# Altium schematic symbol library PCB_Project1.SCHLIB: 19 symbols
Pins are listed as number, name and electrical type; pins without a type are passive.

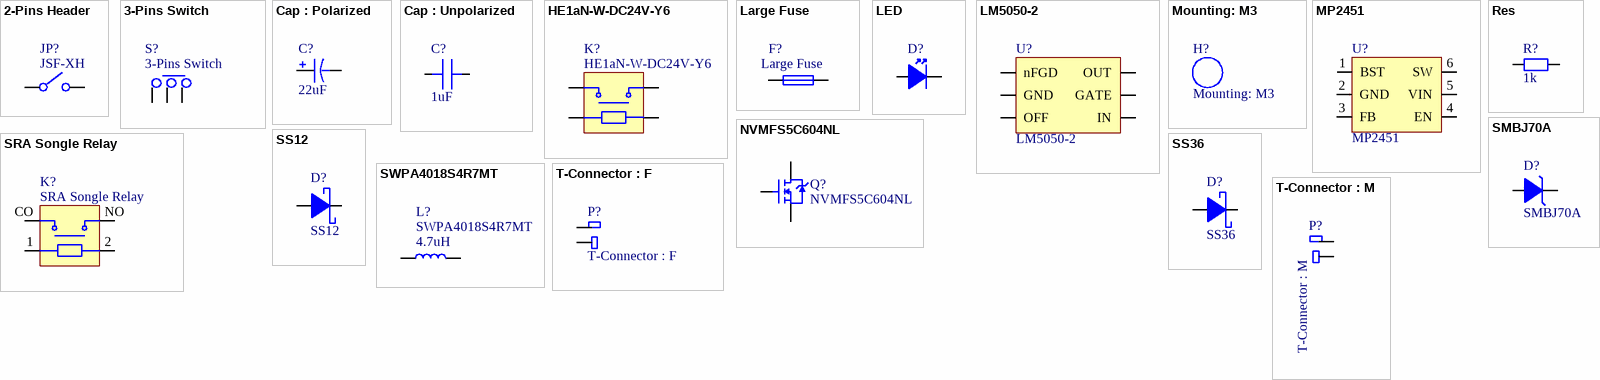
[diagram p0: symbols 2-Pins Header to T-Connector : M]

## 2-Pins Header
designator JP?  Name: JSF-XH  (hidden comment: 2-Pins Header)
footprint 2-Pins Header (2-Pins Header with plastic surrounded)
pins: 1, 2

## 3-Pins Switch
designator S?
SS12d00G3; ComponentLink1Description: SS12d00G3; ComponentLink1URL: https://item.taobao.com/item.htm?spm=a1z09.2.0.0.42022e8dz0ovVy&id=522571770484&_u=133pjrv7231a; Name: 3-Pins Switch
footprint 3-Pins Switch (SS12d00G3)
pins: 1, 2, 3

## Cap : Polarized
designator C?  value 22uF  (hidden comment: Cap : Polarized)
Polarized Capacitor
simulation model CAP (Capacitor)
signal-integrity model Cap
footprint CAP AL C 5.3MM (Al Electrolytic Cap ; 5.30x5.30x5.80mm ; IPC Low Density)
footprint CAP AL D 6.6MM (Al Electrolytic Cap ; 6.60x6.60x7.70mm ; IPC Low Density)
footprint CAP AL F 8.3MM (Al Electrolytic Cap ; 8.30x8.30x10.50mm ; IPC Low Density)
footprint CAP AL G 10.3MM (Al Electrolytic Cap ; 10.30x10.30x10.50mm ; IPC Low Density)
pins: A, K

## Cap : Unpolarized
designator C?  value 1uF  (hidden comment: Cap : Unpolarized)
Unpolarized Capacitor
simulation model CAP (Capacitor)
signal-integrity model Cap
footprint CAP 0402/1005 (Cap ; 1.0x0.5mm ; EIA 0402 ; IPC Medium Density)
footprint CAP 0603/1608 (Cap ; 1.6x0.8mm ; EIA 0603 ; IPC Medium Density)
footprint CAP 0805/2012 (Cap ; 2.0x1.2mm ; EIA 0805 ; IPC Medium Density)
footprint CAP 1206/3216 (Cap ; 3.2x1.6mm ; EIA 1206 ; IPC Medium Density)
footprint CAP 1210/3225 (Cap ; 3.20x2.50mm ; EIA 1210 ; IPC Medium Density)
pins: 1, 2

## HE1aN-W-DC24V-Y6
designator K?
90A Relay; ComponentLink1Description: HE1aN-W-DC24V-Y6; ComponentLink1URL: https://www.mouser.com/ds/2/315/mech_eng_hepv-1075638.pdf
footprint HE1aN-W-DC24V-Y6 (Electro-mechanical relay)
pins: Coil1, Coil2, Relay1, Relay2

## Large Fuse
designator F?
Large size fuse
footprint Fuse (NOT FINIALIZED)
pins: 1, 2

## LED
designator D?  (value not drawn)
Name: *
simulation model LED0 (Diode)
footprint LED 0805/2012 (LED ; EIA 0805)
pins: A, K

## LM5050-2
designator U?
High-Side OR-ing FET Controller; ComponentLink1Description: LM5050-2; ComponentLink1URL: http://www.ti.com/lit/ds/symlink/lm5050-2.pdf; Name: LM5050-2
footprint SOT23-6
pins: 1 nFGD, 2 GND, 3 OFF, 4 IN, 5 GATE, 6 OUT

## Mounting: M3
designator H?
Mounting Hole: M3
footprint Mounting hole M3 (M2 standard mounting hole ; For M3 pillar)

## MP2451
designator U?
Step-Down Converter ; 36V ; 2MHz ; 0.6A; ComponentLink1Description: MP2451; ComponentLink1URL: https://www.mouser.com/ds/2/277/MP2451_r1.33-477967.pdf; Name: MP2451
footprint SOT23-6
pins: 1 BST, 2 GND, 3 FB, 4 EN, 5 VIN, 6 SW

## NVMFS5C604NL
designator Q?
Power MOSFET ; 60 V ; 1.2 mR ; 287A ; Single N−Channel; ComponentLink1Description: NVMFS5C604NL; ComponentLink1URL: http://www.onsemi.cn/PowerSolutions/document/NVMFS5C604NL-D.PDF; Name: NVMFS5C604NL
footprint NVMFS5C604NL (Power MOSFET ; 60 V ; 1.2 mR ; 287A ; Single N-Channel)
pins: D, G, S

## Res
designator R?  value 1k  (hidden comment: Res)
Resistor
simulation model RESISTOR (Resistor)
signal-integrity model Res
footprint RES 0402/1005 (Res ; 1.0x0.5mm ; IPC Medium Density)
footprint RES 0603/1608 (Res ; 1.6x0.8mm ; EIA 0603 ; IPC Medium Density)
footprint RES 0805/2012 (Res ; 2.00x1.25mm ; IPC Medium Density)
footprint RES 1206/3216 (Res ; 3.2x1.6mm ; IPC High Density)
footprint RES 1210/3225 (RES ; 3.20x2.50mm ; EIA 1210 ; IPC Medium Density)
footprint RES 2010/5025 (RES ; 5.20x2.60mm ; EIA 2010 ; IPC Medium Density)
footprint RES 2512/6332 (RES ; 6.30x3.20mm ; EIA 2512 ; IPC Medium Density)
pins: 1, 2 1

## SMBJ70A
designator D?
Transient Voltage Suppression Diodes; ComponentLink1Description: SMBJ70A; ComponentLink1URL: http://www.littelfuse.com/~/media/electronics/datasheets/tvs_diodes/littelfuse_tvs_diode_smbj_datasheet.pdf.pdf; ComponentLink2Description: SMBJ70A_TaoBao; ComponentLink2URL: https://item.taobao.com/item.htm?spm=a230r.1.14.18.167673edhP2qwe&id=564794336232&ns=1&abbucket=13#detail; Name: SMBJ70A
footprint SMB (DO-214AA)
pins: A, K

## SRA Songle Relay
designator K?
20A Relay; ComponentLink1Description: SRA Songle Relay; ComponentLink1URL: https://www.rlocman.ru/i/File/2018/02/21/SRA--T74-.pdf
footprint SRA Songle Relay (Songle Relay ; SRA ; 5 pins ; 20A)
pins: 1 Coil1, 2 Coil2, CO Relay1, NO Relay2

## SS12
designator D?
Surface Mount Schottky Barrier Rectifier; ComponentLink1Description: SS12; ComponentLink1URL: https://www.vishay.com/docs/88746/ss12.pdf; ComponentLink2Description: SS12_TaoBao; ComponentLink2URL: https://item.taobao.com/item.htm?spm=a1z10.3-c-s.w4002-16569462289.23.52e96a4bPeluV8&id=545464510804; Name: SS12
footprint SMA (DO-214AC)
pins: A, K

## SS36
designator D?
Surface Mount Schottky Barrier Rectifier; ComponentLink1Description: SS36; ComponentLink1URL: https://www.vishay.com/docs/88751/ss32.pdf; ComponentLink2Description: SS36_TaoBao; ComponentLink2URL: https://item.taobao.com/item.htm?spm=a1z0d.7625083.1998302264.6.686c4e69YVpoGp&id=545485003984; Name: SS36
footprint SMA (DO-214AC)
pins: A, K

## SWPA4018S4R7MT
designator L?  value 4.7uH
Wire Wound SMD Power Inductor ; 4.7uH ; 1.7A; ComponentLink1Description: SWPA4018S4R7MT; ComponentLink1URL: https://www.datasheets360.com/pdf/-5671755628400742870
simulation model INDUCTOR (Inductor)
signal-integrity model Inductor
footprint SWPA4018S4R7MT (Wire Wound SMD Power Inductor ; 4.7uH ; 1.7A)
pins: 1, 2

## T-Connector : F
designator P?
T-shape connector ; Female side; Name: T-Connector : F
footprint T CONNECTOR F (T-shape connector ; Female side)
pins: N -, P +

## T-Connector : M
designator P?
T-shape connector ; Male side; Name: T-Connector : M
footprint T CONNECTOR M (T-shape connector ; Male side)
pins: N 2, P 2